# Altium footprint library AMS_Slave_Lib.PcbLib: 14 footprints
Each footprint in its own frame and in the unit in brackets; x right, y up, seen from the top. Pads: shape width x height; smd on the part's side, far side on the other; paste and mask are expansions set on the pad; w line width, h text height; cw(c..) or ccw(c..) is an arc to the next point about the centre after c.
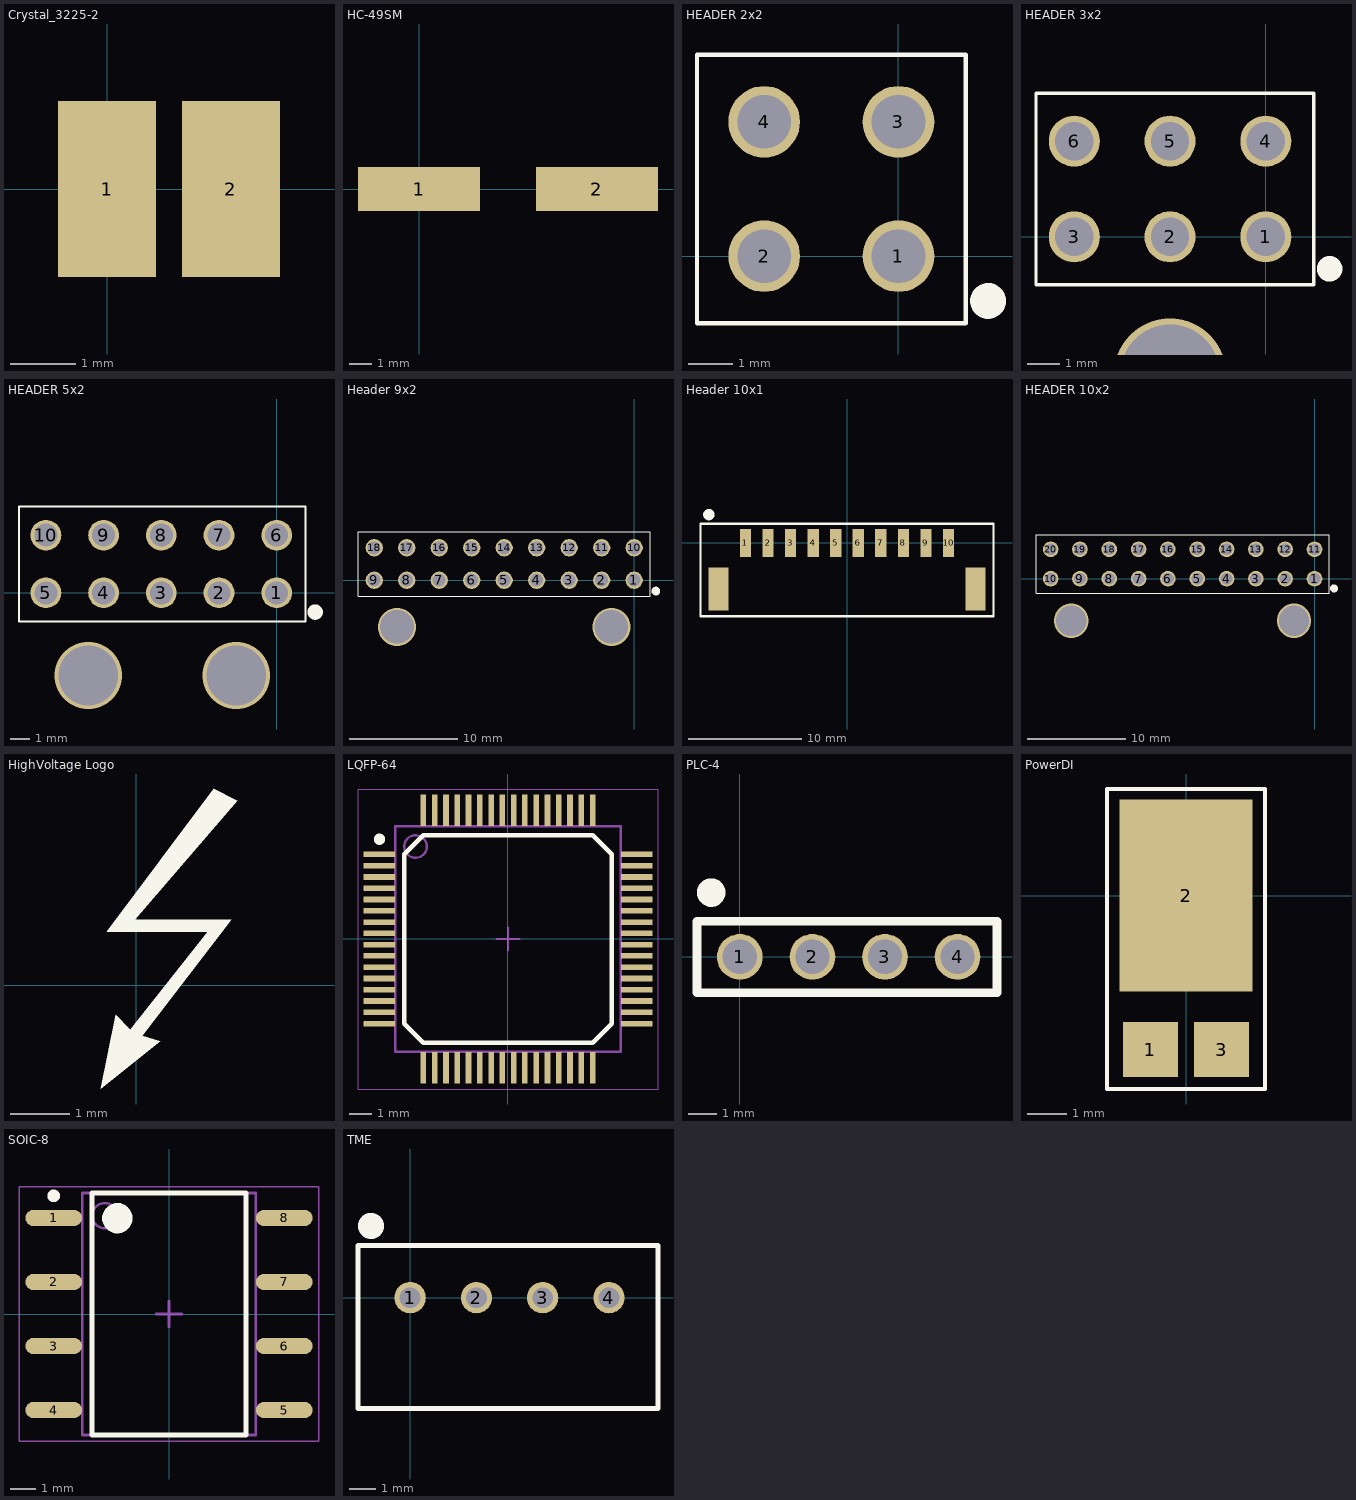
[diagram p0: the footprints below, top view; thin cyan lines are the x and y axes]

## Crystal_3225-2 [mm] "For NX3225GD"
pads (2):
  rect 1.5x2.7 smd: 1(0,0) 2(1.9,0)
3D body "User Library-NX3225GB.step": height 0.75, standoff 0, extent -0.65,-1.25 2.55,1.25

## HC-49SM [mm] "Crystal Resonator"
pads (2):
  rect 5.5x2 smd: 1(0,0) 2(8,0)
3D body "User Library-HC-49SM-1.step": height 3.8, standoff 0, extent -2.2,-2.35 10.2,2.35

## HEADER 2x2 [mm]
pads (4):
  round 1.6 hole 1.2: 1(0,0) 2(-3,0) 3(0,3) 4(-3,3)
via -1.5,-4.3 diameter 3.5 hole 3.1
Top Overlay:
  circle w0.4: c2,-1 r0.2
  lines w0.1: -4.5,-1.5 1.5,-1.5 1.5,4.5 -4.5,4.5 -4.5,-1.5
3D body "430450400.stp": height 8.83, standoff -3.12, extent -6.575,-8.95 3.575,3.29

## HEADER 3x2 [mm]
pads (6):
  round 1.6 hole 1.2: 1(0,0) 2(-3,0) 3(-6,0) 4(0,3) 5(-3,3) 6(-6,3)
via -3,-4.3 diameter 3.5 hole 3.1
Top Overlay:
  circle w0.4: c2,-1 r0.2
  lines w0.1: -7.2,-1.5 1.5,-1.5 1.5,4.5 -7.2,4.5 -7.2,0.7 -7.2,-1.5
3D body "430450600.stp": height 8.83, standoff -3.12, extent -9.575,-8.955 3.575,3.285

## HEADER 5x2 [mm]
pads (10):
  round 1.6 hole 1.2: 1(0,0) 2(-3,0) 3(-6,0) 4(-9,0) 5(-12,0) 6(0,3) 7(-3,3) 8(-6,3) 9(-9,3) 10(-12,3)
via -2.1,-4.3 diameter 3.5 hole 3.1
via -9.8,-4.3 diameter 3.5 hole 3.1
Top Overlay:
  circle w0.4: c2,-1 r0.2
  lines w0.1: -13.4,-1.5 -13.4,4.5 1.5,4.5 1.5,-1.5 -13.4,-1.5
3D body "430451000.stp": height 8.83, standoff -3.12, extent -15.575,-8.95 3.575,3.29

## Header 9x2 [mm] "Micro-Fit 3.0 Right-Angle Header, 3.00mm Pitch, Dual Row, 18 Circuits"
pads (18):
  round 1.6 hole 1.2: 1(0,0) 2(-3,0) 3(-6,0) 4(-9,0) 5(-12,0) 6(-15,0) 7(-18,0) 8(-21,0) 9(-24,0) 10(0,3) 11(-3,3) 12(-6,3) 13(-9,3) 14(-12,3) 15(-15,3) 16(-18,3) 17(-21,3) 18(-24,3)
via -21.9,-4.3 diameter 3.5 hole 3.1
via -2.1,-4.3 diameter 3.5 hole 3.1
Top Overlay:
  circle w0.4: c2,-1 r0.2
  lines w0.1: -25.5,-1.5 1.5,-1.5 1.5,4.5 -25.5,4.5 -25.5,-1.5
3D body "430451800.stp": height 8.83, standoff -3.12, extent -27.575,-8.885 3.575,3.355

## Header 10x1 [mm] "2.00mm Pitch, Micro-Lock Plus PCB Header, Single Row, Right-Angle, Surface Mount, Matte Tin Plating, Positive Lock, 10 Circuits, Tape and Reel, Black"
pads (12):
  rect 1x2.5 smd: 1(-9,0) 2(-7,0) 3(-5,0) 4(-3,0) 5(-1,0) 6(1,0) 7(3,0) 8(5,0) 9(7,0) 10(9,0)
  rect 1.8x3.8 smd: ""(-11.4,-4.1) ""(11.4,-4.1)
Top Overlay:
  circle w0.5: c-12.25,2.5 r0.25
  lines w0.2: -13,-6.5 -13,-5.9 -13,1.7 13,1.7 13,-6.5 -13,-6.5
3D body "5055781071.stp": height 5.9, standoff 0, extent -12,-8.55 12,0.9

## HEADER 10x2 [mm]
pads (20):
  round 1.6 hole 1.2: 1(0,0) 2(-3,0) 3(-6,0) 4(-9,0) 5(-12,0) 6(-15,0) 7(-18,0) 8(-21,0) 9(-24,0) 10(-27,0) 11(0,3) 12(-3,3) 13(-6,3) 14(-9,3) 15(-12,3) 16(-15,3) 17(-18,3) 18(-21,3) 19(-24,3) 20(-27,3)
via -24.9,-4.3 diameter 3.5 hole 3.1
via -2.1,-4.3 diameter 3.5 hole 3.1
Top Overlay:
  circle w0.4: c2,-1 r0.2
  lines w0.1: -28.5,-1.5 1.5,-1.5 1.5,4.5 -28.5,4.5 -28.5,-1.5
3D body "430452000.stp": height 8.83, standoff -3.12, extent -30.525,-8.95 3.625,3.29

## HighVoltage Logo [mm]
Top Overlay:
  region: -0.6,-1.75 -0.35,-0.5 -0.1,-0.75 1.2,0.9 -0.5,0.9 1.3,3.3 1.7,3.1 -0.03,1.1 1.6,1.1 0.1,-0.85 0.4,-0.95

## LQFP-64 [mm] "LQFP, 64-Leads, Body 12,00x12,00mm, Pitch 0,50mm, IPC Medium Density"
height 1.6
pads (64):
  rect 1.4x0.25 smd mask+0.06: 1(-5.7,3.75) 2(-5.7,3.25) 3(-5.7,2.75) 4(-5.7,2.25) 5(-5.7,1.75) 6(-5.7,1.25) 7(-5.7,0.75) 8(-5.7,0.25) 9(-5.7,-0.25) 10(-5.7,-0.75) 11(-5.7,-1.25) 12(-5.7,-1.75) 13(-5.7,-2.25) 14(-5.7,-2.75) 15(-5.7,-3.25) 16(-5.7,-3.75) 33(5.7,-3.75) 34(5.7,-3.25) 35(5.7,-2.75) 36(5.7,-2.25) 37(5.7,-1.75) 38(5.7,-1.25) 39(5.7,-0.75) 40(5.7,-0.25) 41(5.7,0.25) 42(5.7,0.75) 43(5.7,1.25) 44(5.7,1.75) 45(5.7,2.25) 46(5.7,2.75) 47(5.7,3.25) 48(5.7,3.75)
  rect 0.25x1.4 smd mask+0.06: 17(-3.75,-5.7) 18(-3.25,-5.7) 19(-2.75,-5.7) 20(-2.25,-5.7) 21(-1.75,-5.7) 22(-1.25,-5.7) 23(-0.75,-5.7) 24(-0.25,-5.7) 25(0.25,-5.7) 26(0.75,-5.7) 27(1.25,-5.7) 28(1.75,-5.7) 29(2.25,-5.7) 30(2.75,-5.7) 31(3.25,-5.7) 32(3.75,-5.7) 49(3.75,5.7) 50(3.25,5.7) 51(2.75,5.7) 52(2.25,5.7) 53(1.75,5.7) 54(1.25,5.7) 55(0.75,5.7) 56(0.25,5.7) 57(-0.25,5.7) 58(-0.75,5.7) 59(-1.25,5.7) 60(-1.75,5.7) 61(-2.25,5.7) 62(-2.75,5.7) 63(-3.25,5.7) 64(-3.75,5.7)
Top Overlay:
  circle w0.25: c-5.7,4.425 r0.125
  lines w0.2: -4.6,-3.75 -3.75,-4.6 3.75,-4.6 4.6,-3.75 4.6,3.75 3.75,4.6 -3.75,4.6 -4.6,3.75 -4.6,-3.75
Top Assembly:
  circle w0.1: c-4.1,4.1 r0.5
  lines w0.1: -5,-5 5,-5 5,5 -5,5 -5,-5
Top Courtyard:
  lines w0.05: -6.65,-6.65 6.65,-6.65 6.65,6.65 -6.65,6.65 -6.65,-6.65
  lines w0.1: -0.5,0 0.5,0 ; 0,-0.5 0,0.5
3D body "LQFP-64.step": height 1.55, standoff 0, extent -6,-6 6,6

## PLC-4 [mm]
pads (4):
  round 1.6 hole 1.2: 1(0,0) 2(2.54,0) 3(5.08,0) 4(7.62,0)
Top Overlay:
  circle w0.5: c-1,2.25 r0.25
  lines w0.3: -1.5,-1.25 9,-1.25 9,1.25 -1.5,1.25 -1.5,-1.25
3D body "User Library-1x4 TH Pitch 2_54mm.STEP": height 9.2, standoff -3.5, extent -1.33,-1.25 8.83,1.29

## PowerDI [mm] "For NPN transistor"
pads (3):
  rect 1.39x1.4 smd: 1(-0.9,-3.9) 3(0.9,-3.9)
  rect 3.36x4.86 smd: 2(0,0)
Top Overlay:
  lines w0.1: -2,-4.9 2,-4.9 2,2.7 -2,2.7 -2,-4.9

## SOIC-8 [mm] "Isolated 5-V CAN transceiver"
height 4.85
pads (8):
  oval 2.25x0.65 smd: 1(-4.575,3.81) 2(-4.575,1.27) 3(-4.575,-1.27) 4(-4.575,-3.81) 5(4.575,-3.81) 6(4.575,-1.27) 7(4.575,1.27) 8(4.575,3.81)
Top Overlay:
  circle w0.6: c-2.05,3.8 r0.3
  circle w0.25: c-4.575,4.685 r0.125
  lines w0.2: -3.05,-4.8 3.05,-4.8 3.05,4.8 -3.05,4.8 -3.05,-4.8
Top Assembly:
  circle w0.1: c-2.55,3.9 r0.5
  lines w0.1: -3.45,-4.8 3.45,-4.8 3.45,4.8 -3.45,4.8 -3.45,-4.8
Top Courtyard:
  lines w0.05: -5.95,-5.05 5.95,-5.05 5.95,5.05 -5.95,5.05 -5.95,-5.05
  lines w0.1: -0.5,0 0.5,0 ; 0,-0.5 0,0.5
3D body "DUB0008A.stp": height 3.68, standoff 0, extent -5.21,-4.575 5.21,4.575

## TME [mm] "DC-DC Converter"
pads (4):
  round 1.2 hole 0.8: 1(0,0) 2(2.54,0) 3(5.08,0) 4(7.62,0)
Top Overlay:
  circle w0.5: c-1.5,2.75 r0.25
  lines w0.2: -2,-4.25 -2,2 9.5,2 9.5,-4.25 -2,-4.25
Multi-Layer:
  region: -1.5,1.75
3D body "tme.stp": height 10.2, standoff -2.9, extent -1.95,-4.25 9.45,1.75